# Altium integrated library Linear Technology Power Management Hot Swap Controllers.IntLib: 992 symbols (part 19 of 93)
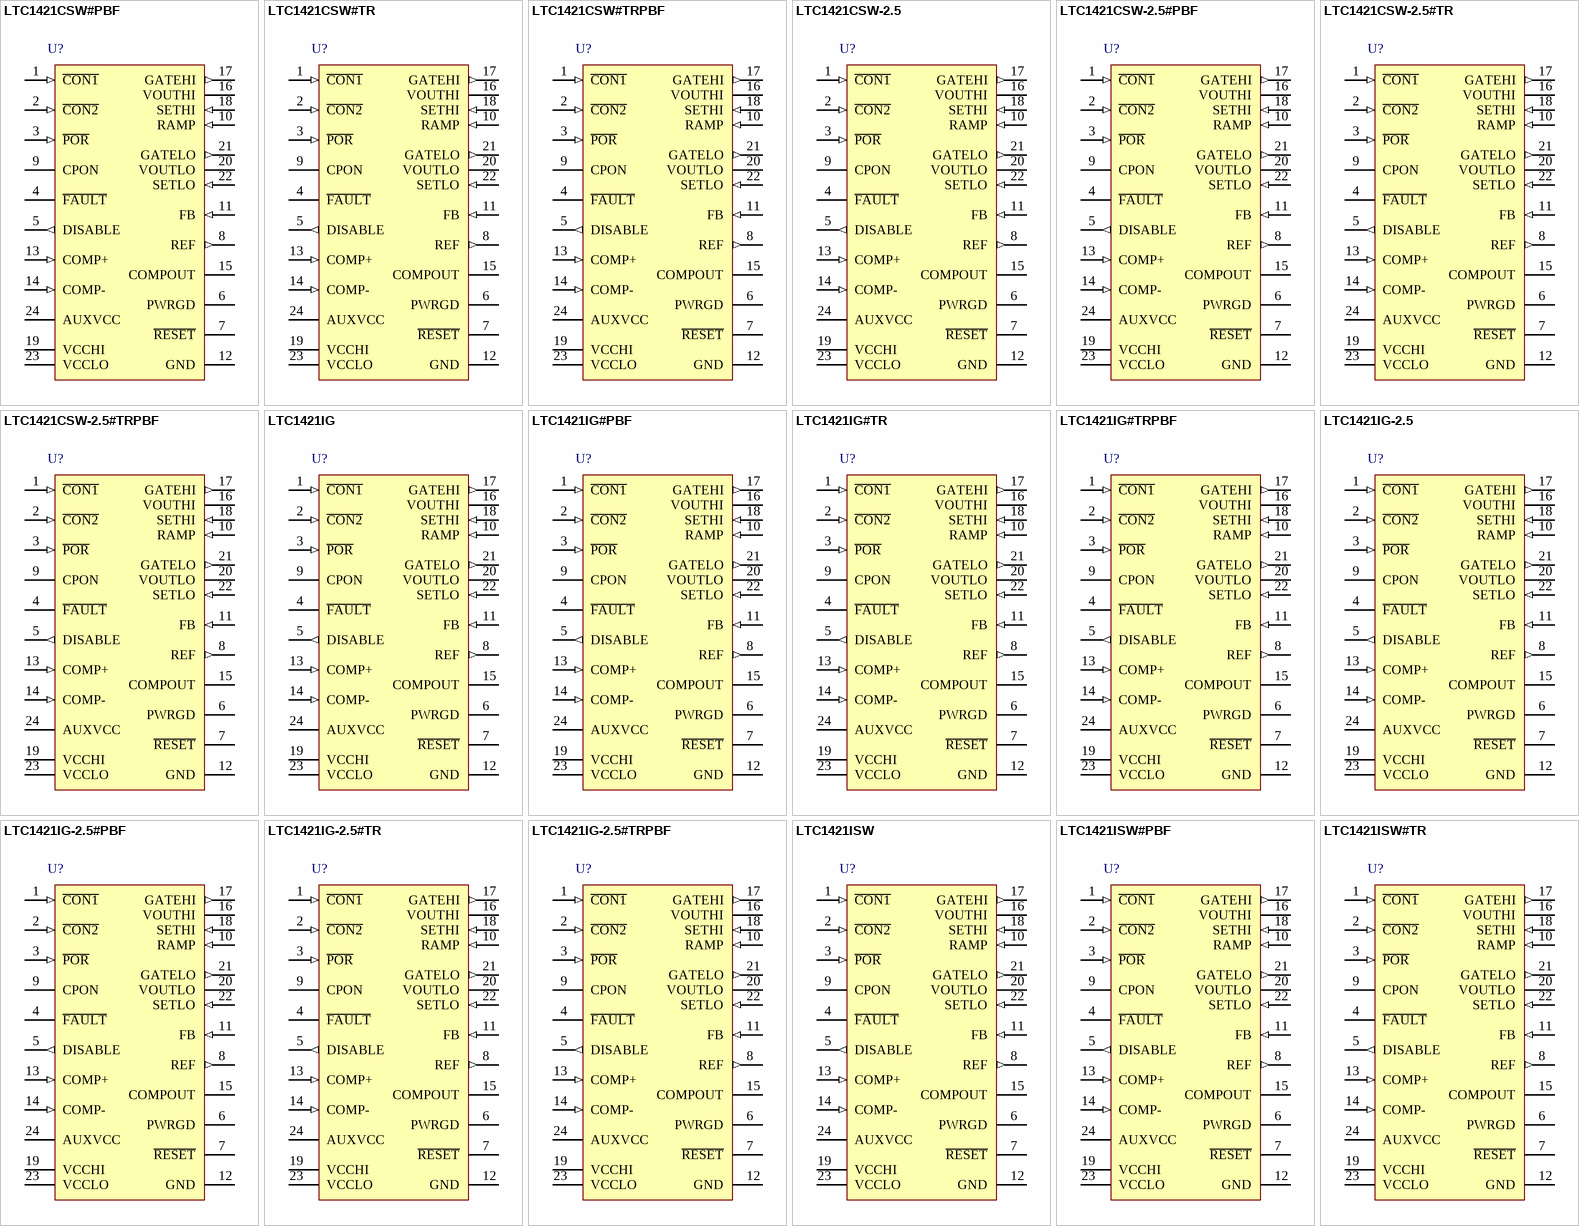
[diagram p55: symbols LTC1421CSW#PBF to LTC1421ISW#TR]

## LTC1421IG-2.5#TR
designator U?
Hot Swap Controller, 2.6 to 13.2 V, -5 to -12 V Vin, 24-pin SOP (G-24), -40 to 85 degC, Tape and Reel; Manufacturer: Linear Technology; PartNumber: LTC1421IG-2.5#TR; Active Limiting: no; Circuit Breaker Accuracy(%): 20; Circuit Breaker Threshold: 50 mV; Circuit Breakers(#): 2; Extended Temp: C, I; Fault: yes; In-Rush Current: Ramp; DatasheetVersion: Rev. C; PackageVersion: Jun-10; PackageReference: G-24; PackageDescription: 24-Pin Plastic SSOP, Body 8.2 x 5.3 mm, Pitch 0.65 mm; Supplier 1: Digi-Key; Supplier Part Number 1: LTC1421IG-2.5#TR-ND; Fast Comparator: no; Foldback: no; Packing: Tape and Reel; Power Good: yes; Reset: yes; RoHS: FALSE; Vin Range: 2.6 to 13.2 V, -5 to -12 V; Mounting Technology: Surface Mount; ComponentLink1Description: Manufacturer URL; ComponentLink1URL: http://www.linear.com/; ComponentLink2Description: Datasheet; ComponentLink2URL: http://cds.linear.com/docs/en/datasheet/1421fc.pdf; ComponentLink3Description: Package Specification; ComponentLink3URL: http://cds.linear.com/docs/en/packaging/SSOP_24_05-08-1640.pdf
footprint LT-G-24_N (SOP, 24-Leads, Body 8.5x5.6mm, Pitch 0.65mm, IPC Medium Density)
footprint LT-G-24_L (SOP, 24-Leads, Body 8.5x5.6mm, Pitch 0.65mm, IPC High Density)
footprint LT-G-24_M (SOP, 24-Leads, Body 8.5x5.6mm, Pitch 0.65mm, IPC Low Density)
pins: 1 ~{CON1} (in) "TTL Level Input with a Pull-Up to VCCLO.Together with C\O\N\2\, it is used to indicate board connection. The pin must be tied to ground on the host side of the connector. When using staggered connector pins, C\O\N\1\ and (See Datasheet)", 2 ~{CON2} (in) "TTL Level Input with a Pull-Up to VCCLO. Together with C\O\N\1\ it is used to indicate board connection.", 3 ~{POR} (in) "TTL Level Input with a Pull-Up to VCCLO. When the pin is pulled low for at least 20ms, a hard reset is generated. Both VOUTLO and VOUTHI will turn off at a controlled rate. A power-up sequence will not start until the P\O\R\ (See Datasheet)", 4 ~{FAULT} (oc) "Open Drain Output to GND with a Weak Pull-Up to VCCLO. The pin is pulled low when an overcurrent fault is detected at VOUTLO or VOUTHI.", 5 DISABLE (out) "CMOS Output. The signal is used to disable the board’s data bus during insertion or removal.", 6 PWRGD (oc) "Open Drain Output to GND with a Weak Pull-Up to VCCLO. The pin is pulled low immediately after VOUTLO falls below its reset threshold voltage. The pin is pulled high immediately after VOUTLO rises above its reset threshold (See Datasheet)", 7 ~{RESET} (oc) "Open Drain Output to GND with a Weak Pull-Up to VCCLO. The pin is pulled low when a reset condition is detected. A reset will be generated when any of the following conditions are met: Either C\O\N\1\ or C\O\N\2\ is high, (See Datasheet)", 8 REF (out) "The Reference Voltage Output. VOUT = 1.232V +/-1%. The reference can source up to 5mA of current. A 1uF bypass capacitor is recommended.", 9 CPON (hiz) "CMOS Output That Can Be Pulled Below Ground. CPON is pulled high when the internal charge pumps for GATELO and GATEHI are turned on. CPON is pulled low when the charge pumps are turned off. The pin can be used to control an (See Datasheet)", 10 RAMP (in) "Analog Power-Up Ramp Control Pin. By connecting an external capacitor between the RAMP and GATEHI, a positive linear voltage ramp on GATEHI and GATELO is generated on power-up with a slope equal to 20uA/CRAMP. A 10k resistor (See Datasheet)", 11 FB (in) "Analog Feedback Input. FB is used to set the reset threshold voltage on VCCLO. For a 5V supply leave FB floating. For a 3.3V supply, short FB to VCCLO.", 12 GND (power) "Ground", 13 COMP+ (in) "Noninverting Comparator Input.", 14 COMP- (in) "Inverting Comparator Input.", 15 COMPOUT (oc) "Open Drain Comparator Output.", 16 VOUTHI (power) "High Supply Voltage Output. This must be the higher of the two supply voltage outputs.", 17 GATEHI (out) "The High Side Gate Drive for the High Supply N-Channel. An internal charge pump guarantees at least 6V of gate drive. The slope of the voltage rise at GATEHI is set by the external capacitor connected between GATEHI and RAMP.(See Datasheet)", 18 SETHI (in) "The Circuit Breaker Set Pin for the High Supply. With a sense resistor placed in the supply path between VCCHI and SETHI, the circuit breaker will trip when the voltage across the resistor exceeds 50mV for more than 20us. To (See Datasheet)", 19 VCCHI (power) "The Positive Supply Input. This must be the higher of the two input supply voltages. An undervoltage lockout circuit disables the chip until the voltage at VCCHI is greater than 2.45V.", 20 VOUTLO (power) "Low Supply Voltage Output. This must be the lower of the two supply voltage outputs.", 21 GATELO (out) "The High Side Gate Drive for the Low Supply N-Channel Pass Transistor. An internal charge pump guarantees at least 10V of gate drive. The slope of the voltage rise at GATELO is set by the external capacitor connected between (See Datasheet)", 22 SETLO (in) "The Circuit Breaker Set Pin for the Low Supply. With a sense resistor placed in the supply path between VCCLO and SETLO, the circuit breaker will trip when the voltage across the resistor exceeds 50mV for more than 20us. To (See Datasheet)", 23 VCCLO (power) "The Positive Supply Input. VCCLO must be equal to or lower voltage than VCCHI. An undervoltage lockout circuit disables the chip until the voltage at VCCLO is greater than 2.45V.", 24 AUXVCC (power) "The supply input for the GATELO and GATEHI discharge circuitry. Connect a 1uF capacitor to ground. AUXVCC is powered from VCCLO via an internal Schottky diode and series resistor."

## LTC1421IG-2.5#TRPBF
designator U?
Hot Swap Controller, 2.6 to 13.2 V, -5 to -12 V Vin, 24-pin SOP (G-24), -40 to 85 degC, Pb-Free, Tape and Reel; Manufacturer: Linear Technology; PartNumber: LTC1421IG-2.5#TRPBF; Active Limiting: no; Circuit Breaker Accuracy(%): 20; Circuit Breaker Threshold: 50 mV; Circuit Breakers(#): 2; Extended Temp: C, I; Fault: yes; In-Rush Current: Ramp; DatasheetVersion: Rev. C; PackageVersion: Jun-10; PackageReference: G-24; PackageDescription: 24-Pin Plastic SSOP, Body 8.2 x 5.3 mm, Pitch 0.65 mm; Supplier 1: Digi-Key; Supplier Part Number 1: LTC1421IG-2.5#TRPBF-ND; Fast Comparator: no; Foldback: no; Packing: Tape and Reel; Power Good: yes; Reset: yes; RoHS: TRUE; Vin Range: 2.6 to 13.2 V, -5 to -12 V; Mounting Technology: Surface Mount; ComponentLink1Description: Manufacturer URL; ComponentLink1URL: http://www.linear.com/; ComponentLink2Description: Datasheet; ComponentLink2URL: http://cds.linear.com/docs/en/datasheet/1421fc.pdf; ComponentLink3Description: Package Specification; ComponentLink3URL: http://cds.linear.com/docs/en/packaging/SSOP_24_05-08-1640.pdf
footprint LT-G-24_N (SOP, 24-Leads, Body 8.5x5.6mm, Pitch 0.65mm, IPC Medium Density)
footprint LT-G-24_L (SOP, 24-Leads, Body 8.5x5.6mm, Pitch 0.65mm, IPC High Density)
footprint LT-G-24_M (SOP, 24-Leads, Body 8.5x5.6mm, Pitch 0.65mm, IPC Low Density)
pins: 1 ~{CON1} (in) "TTL Level Input with a Pull-Up to VCCLO.Together with C\O\N\2\, it is used to indicate board connection. The pin must be tied to ground on the host side of the connector. When using staggered connector pins, C\O\N\1\ and (See Datasheet)", 2 ~{CON2} (in) "TTL Level Input with a Pull-Up to VCCLO. Together with C\O\N\1\ it is used to indicate board connection.", 3 ~{POR} (in) "TTL Level Input with a Pull-Up to VCCLO. When the pin is pulled low for at least 20ms, a hard reset is generated. Both VOUTLO and VOUTHI will turn off at a controlled rate. A power-up sequence will not start until the P\O\R\ (See Datasheet)", 4 ~{FAULT} (oc) "Open Drain Output to GND with a Weak Pull-Up to VCCLO. The pin is pulled low when an overcurrent fault is detected at VOUTLO or VOUTHI.", 5 DISABLE (out) "CMOS Output. The signal is used to disable the board’s data bus during insertion or removal.", 6 PWRGD (oc) "Open Drain Output to GND with a Weak Pull-Up to VCCLO. The pin is pulled low immediately after VOUTLO falls below its reset threshold voltage. The pin is pulled high immediately after VOUTLO rises above its reset threshold (See Datasheet)", 7 ~{RESET} (oc) "Open Drain Output to GND with a Weak Pull-Up to VCCLO. The pin is pulled low when a reset condition is detected. A reset will be generated when any of the following conditions are met: Either C\O\N\1\ or C\O\N\2\ is high, (See Datasheet)", 8 REF (out) "The Reference Voltage Output. VOUT = 1.232V +/-1%. The reference can source up to 5mA of current. A 1uF bypass capacitor is recommended.", 9 CPON (hiz) "CMOS Output That Can Be Pulled Below Ground. CPON is pulled high when the internal charge pumps for GATELO and GATEHI are turned on. CPON is pulled low when the charge pumps are turned off. The pin can be used to control an (See Datasheet)", 10 RAMP (in) "Analog Power-Up Ramp Control Pin. By connecting an external capacitor between the RAMP and GATEHI, a positive linear voltage ramp on GATEHI and GATELO is generated on power-up with a slope equal to 20uA/CRAMP. A 10k resistor (See Datasheet)", 11 FB (in) "Analog Feedback Input. FB is used to set the reset threshold voltage on VCCLO. For a 5V supply leave FB floating. For a 3.3V supply, short FB to VCCLO.", 12 GND (power) "Ground", 13 COMP+ (in) "Noninverting Comparator Input.", 14 COMP- (in) "Inverting Comparator Input.", 15 COMPOUT (oc) "Open Drain Comparator Output.", 16 VOUTHI (power) "High Supply Voltage Output. This must be the higher of the two supply voltage outputs.", 17 GATEHI (out) "The High Side Gate Drive for the High Supply N-Channel. An internal charge pump guarantees at least 6V of gate drive. The slope of the voltage rise at GATEHI is set by the external capacitor connected between GATEHI and RAMP.(See Datasheet)", 18 SETHI (in) "The Circuit Breaker Set Pin for the High Supply. With a sense resistor placed in the supply path between VCCHI and SETHI, the circuit breaker will trip when the voltage across the resistor exceeds 50mV for more than 20us. To (See Datasheet)", 19 VCCHI (power) "The Positive Supply Input. This must be the higher of the two input supply voltages. An undervoltage lockout circuit disables the chip until the voltage at VCCHI is greater than 2.45V.", 20 VOUTLO (power) "Low Supply Voltage Output. This must be the lower of the two supply voltage outputs.", 21 GATELO (out) "The High Side Gate Drive for the Low Supply N-Channel Pass Transistor. An internal charge pump guarantees at least 10V of gate drive. The slope of the voltage rise at GATELO is set by the external capacitor connected between (See Datasheet)", 22 SETLO (in) "The Circuit Breaker Set Pin for the Low Supply. With a sense resistor placed in the supply path between VCCLO and SETLO, the circuit breaker will trip when the voltage across the resistor exceeds 50mV for more than 20us. To (See Datasheet)", 23 VCCLO (power) "The Positive Supply Input. VCCLO must be equal to or lower voltage than VCCHI. An undervoltage lockout circuit disables the chip until the voltage at VCCLO is greater than 2.45V.", 24 AUXVCC (power) "The supply input for the GATELO and GATEHI discharge circuitry. Connect a 1uF capacitor to ground. AUXVCC is powered from VCCLO via an internal Schottky diode and series resistor."

## LTC1421ISW
designator U?
Hot Swap Controller, 2.6 to 13.2 V, -5 to -12 V Vin, 24-pin SOIC (SW-24), -40 to 85 degC; Manufacturer: Linear Technology; PartNumber: LTC1421ISW; Active Limiting: no; Circuit Breaker Accuracy(%): 20; Circuit Breaker Threshold: 50 mV; Circuit Breakers(#): 2; Extended Temp: C, I; Fault: yes; In-Rush Current: Ramp; DatasheetVersion: Rev. C; PackageVersion: Jun-10; PackageReference: SW-24; PackageDescription: 24-Pin Plastic Small Outline, Body 15.395 x 7.493 mm, Pitch 1.27 mm; Supplier 1: Digi-Key; Supplier Part Number 1: LTC1421ISW-ND; Fast Comparator: no; Foldback: no; Power Good: yes; Reset: yes; RoHS: FALSE; Vin Range: 2.6 to 13.2 V, -5 to -12 V; Mounting Technology: Surface Mount; ComponentLink1Description: Manufacturer URL; ComponentLink1URL: http://www.linear.com/; ComponentLink2Description: Datasheet; ComponentLink2URL: http://cds.linear.com/docs/en/datasheet/1421fc.pdf; ComponentLink3Description: Package Specification; ComponentLink3URL: http://cds.linear.com/docs/Packaging/SO_24_05-08-1620.pdf
footprint LT-SW-24_N (SOIC, 24-Leads, Body 15.6x7.6mm, Pitch 1.27mm, IPC Medium Density)
footprint LT-SW-24_L (SOIC, 24-Leads, Body 15.6x7.6mm, Pitch 1.27mm, IPC High Density)
footprint LT-SW-24_M (SOIC, 24-Leads, Body 15.6x7.6mm, Pitch 1.27mm, IPC Low Density)
pins: 1 ~{CON1} (in) "TTL Level Input with a Pull-Up to VCCLO.Together with C\O\N\2\, it is used to indicate board connection. The pin must be tied to ground on the host side of the connector. When using staggered connector pins, C\O\N\1\ and (See Datasheet)", 2 ~{CON2} (in) "TTL Level Input with a Pull-Up to VCCLO. Together with C\O\N\1\ it is used to indicate board connection.", 3 ~{POR} (in) "TTL Level Input with a Pull-Up to VCCLO. When the pin is pulled low for at least 20ms, a hard reset is generated. Both VOUTLO and VOUTHI will turn off at a controlled rate. A power-up sequence will not start until the P\O\R\ (See Datasheet)", 4 ~{FAULT} (oc) "Open Drain Output to GND with a Weak Pull-Up to VCCLO. The pin is pulled low when an overcurrent fault is detected at VOUTLO or VOUTHI.", 5 DISABLE (out) "CMOS Output. The signal is used to disable the board’s data bus during insertion or removal.", 6 PWRGD (oc) "Open Drain Output to GND with a Weak Pull-Up to VCCLO. The pin is pulled low immediately after VOUTLO falls below its reset threshold voltage. The pin is pulled high immediately after VOUTLO rises above its reset threshold (See Datasheet)", 7 ~{RESET} (oc) "Open Drain Output to GND with a Weak Pull-Up to VCCLO. The pin is pulled low when a reset condition is detected. A reset will be generated when any of the following conditions are met: Either C\O\N\1\ or C\O\N\2\ is high, (See Datasheet)", 8 REF (out) "The Reference Voltage Output. VOUT = 1.232V +/-1%. The reference can source up to 5mA of current. A 1uF bypass capacitor is recommended.", 9 CPON (hiz) "CMOS Output That Can Be Pulled Below Ground. CPON is pulled high when the internal charge pumps for GATELO and GATEHI are turned on. CPON is pulled low when the charge pumps are turned off. The pin can be used to control an (See Datasheet)", 10 RAMP (in) "Analog Power-Up Ramp Control Pin. By connecting an external capacitor between the RAMP and GATEHI, a positive linear voltage ramp on GATEHI and GATELO is generated on power-up with a slope equal to 20uA/CRAMP. A 10k resistor (See Datasheet)", 11 FB (in) "Analog Feedback Input. FB is used to set the reset threshold voltage on VCCLO. For a 5V supply leave FB floating. For a 3.3V supply, short FB to VCCLO.", 12 GND (power) "Ground", 13 COMP+ (in) "Noninverting Comparator Input.", 14 COMP- (in) "Inverting Comparator Input.", 15 COMPOUT (oc) "Open Drain Comparator Output.", 16 VOUTHI (power) "High Supply Voltage Output. This must be the higher of the two supply voltage outputs.", 17 GATEHI (out) "The High Side Gate Drive for the High Supply N-Channel. An internal charge pump guarantees at least 6V of gate drive. The slope of the voltage rise at GATEHI is set by the external capacitor connected between GATEHI and RAMP.(See Datasheet)", 18 SETHI (in) "The Circuit Breaker Set Pin for the High Supply. With a sense resistor placed in the supply path between VCCHI and SETHI, the circuit breaker will trip when the voltage across the resistor exceeds 50mV for more than 20us. To (See Datasheet)", 19 VCCHI (power) "The Positive Supply Input. This must be the higher of the two input supply voltages. An undervoltage lockout circuit disables the chip until the voltage at VCCHI is greater than 2.45V.", 20 VOUTLO (power) "Low Supply Voltage Output. This must be the lower of the two supply voltage outputs.", 21 GATELO (out) "The High Side Gate Drive for the Low Supply N-Channel Pass Transistor. An internal charge pump guarantees at least 10V of gate drive. The slope of the voltage rise at GATELO is set by the external capacitor connected between (See Datasheet)", 22 SETLO (in) "The Circuit Breaker Set Pin for the Low Supply. With a sense resistor placed in the supply path between VCCLO and SETLO, the circuit breaker will trip when the voltage across the resistor exceeds 50mV for more than 20us. To (See Datasheet)", 23 VCCLO (power) "The Positive Supply Input. VCCLO must be equal to or lower voltage than VCCHI. An undervoltage lockout circuit disables the chip until the voltage at VCCLO is greater than 2.45V.", 24 AUXVCC (power) "The supply input for the GATELO and GATEHI discharge circuitry. Connect a 1uF capacitor to ground. AUXVCC is powered from VCCLO via an internal Schottky diode and series resistor."

## LTC1421ISW#PBF
designator U?
Hot Swap Controller, 2.6 to 13.2 V, -5 to -12 V Vin, 24-pin SOIC (SW-24), -40 to 85 degC, Pb-Free; Manufacturer: Linear Technology; PartNumber: LTC1421ISW#PBF; Active Limiting: no; Circuit Breaker Accuracy(%): 20; Circuit Breaker Threshold: 50 mV; Circuit Breakers(#): 2; Extended Temp: C, I; Fault: yes; In-Rush Current: Ramp; DatasheetVersion: Rev. C; PackageVersion: Jun-10; PackageReference: SW-24; PackageDescription: 24-Pin Plastic Small Outline, Body 15.395 x 7.493 mm, Pitch 1.27 mm; Supplier 1: Digi-Key; Supplier Part Number 1: LTC1421ISW#PBF-ND; Supplier 2: Newark; Supplier Part Number 2: 56M0993; Fast Comparator: no; Foldback: no; Power Good: yes; Reset: yes; RoHS: TRUE; Vin Range: 2.6 to 13.2 V, -5 to -12 V; Mounting Technology: Surface Mount; ComponentLink1Description: Manufacturer URL; ComponentLink1URL: http://www.linear.com/; ComponentLink2Description: Datasheet; ComponentLink2URL: http://cds.linear.com/docs/en/datasheet/1421fc.pdf; ComponentLink3Description: Package Specification; ComponentLink3URL: http://cds.linear.com/docs/Packaging/SO_24_05-08-1620.pdf
footprint LT-SW-24_N (SOIC, 24-Leads, Body 15.6x7.6mm, Pitch 1.27mm, IPC Medium Density)
footprint LT-SW-24_L (SOIC, 24-Leads, Body 15.6x7.6mm, Pitch 1.27mm, IPC High Density)
footprint LT-SW-24_M (SOIC, 24-Leads, Body 15.6x7.6mm, Pitch 1.27mm, IPC Low Density)
pins: 1 ~{CON1} (in) "TTL Level Input with a Pull-Up to VCCLO.Together with C\O\N\2\, it is used to indicate board connection. The pin must be tied to ground on the host side of the connector. When using staggered connector pins, C\O\N\1\ and (See Datasheet)", 2 ~{CON2} (in) "TTL Level Input with a Pull-Up to VCCLO. Together with C\O\N\1\ it is used to indicate board connection.", 3 ~{POR} (in) "TTL Level Input with a Pull-Up to VCCLO. When the pin is pulled low for at least 20ms, a hard reset is generated. Both VOUTLO and VOUTHI will turn off at a controlled rate. A power-up sequence will not start until the P\O\R\ (See Datasheet)", 4 ~{FAULT} (oc) "Open Drain Output to GND with a Weak Pull-Up to VCCLO. The pin is pulled low when an overcurrent fault is detected at VOUTLO or VOUTHI.", 5 DISABLE (out) "CMOS Output. The signal is used to disable the board’s data bus during insertion or removal.", 6 PWRGD (oc) "Open Drain Output to GND with a Weak Pull-Up to VCCLO. The pin is pulled low immediately after VOUTLO falls below its reset threshold voltage. The pin is pulled high immediately after VOUTLO rises above its reset threshold (See Datasheet)", 7 ~{RESET} (oc) "Open Drain Output to GND with a Weak Pull-Up to VCCLO. The pin is pulled low when a reset condition is detected. A reset will be generated when any of the following conditions are met: Either C\O\N\1\ or C\O\N\2\ is high, (See Datasheet)", 8 REF (out) "The Reference Voltage Output. VOUT = 1.232V +/-1%. The reference can source up to 5mA of current. A 1uF bypass capacitor is recommended.", 9 CPON (hiz) "CMOS Output That Can Be Pulled Below Ground. CPON is pulled high when the internal charge pumps for GATELO and GATEHI are turned on. CPON is pulled low when the charge pumps are turned off. The pin can be used to control an (See Datasheet)", 10 RAMP (in) "Analog Power-Up Ramp Control Pin. By connecting an external capacitor between the RAMP and GATEHI, a positive linear voltage ramp on GATEHI and GATELO is generated on power-up with a slope equal to 20uA/CRAMP. A 10k resistor (See Datasheet)", 11 FB (in) "Analog Feedback Input. FB is used to set the reset threshold voltage on VCCLO. For a 5V supply leave FB floating. For a 3.3V supply, short FB to VCCLO.", 12 GND (power) "Ground", 13 COMP+ (in) "Noninverting Comparator Input.", 14 COMP- (in) "Inverting Comparator Input.", 15 COMPOUT (oc) "Open Drain Comparator Output.", 16 VOUTHI (power) "High Supply Voltage Output. This must be the higher of the two supply voltage outputs.", 17 GATEHI (out) "The High Side Gate Drive for the High Supply N-Channel. An internal charge pump guarantees at least 6V of gate drive. The slope of the voltage rise at GATEHI is set by the external capacitor connected between GATEHI and RAMP.(See Datasheet)", 18 SETHI (in) "The Circuit Breaker Set Pin for the High Supply. With a sense resistor placed in the supply path between VCCHI and SETHI, the circuit breaker will trip when the voltage across the resistor exceeds 50mV for more than 20us. To (See Datasheet)", 19 VCCHI (power) "The Positive Supply Input. This must be the higher of the two input supply voltages. An undervoltage lockout circuit disables the chip until the voltage at VCCHI is greater than 2.45V.", 20 VOUTLO (power) "Low Supply Voltage Output. This must be the lower of the two supply voltage outputs.", 21 GATELO (out) "The High Side Gate Drive for the Low Supply N-Channel Pass Transistor. An internal charge pump guarantees at least 10V of gate drive. The slope of the voltage rise at GATELO is set by the external capacitor connected between (See Datasheet)", 22 SETLO (in) "The Circuit Breaker Set Pin for the Low Supply. With a sense resistor placed in the supply path between VCCLO and SETLO, the circuit breaker will trip when the voltage across the resistor exceeds 50mV for more than 20us. To (See Datasheet)", 23 VCCLO (power) "The Positive Supply Input. VCCLO must be equal to or lower voltage than VCCHI. An undervoltage lockout circuit disables the chip until the voltage at VCCLO is greater than 2.45V.", 24 AUXVCC (power) "The supply input for the GATELO and GATEHI discharge circuitry. Connect a 1uF capacitor to ground. AUXVCC is powered from VCCLO via an internal Schottky diode and series resistor."

## LTC1421ISW#TR
designator U?
Hot Swap Controller, 2.6 to 13.2 V, -5 to -12 V Vin, 24-pin SOIC (SW-24), -40 to 85 degC, Tape and Reel; Manufacturer: Linear Technology; PartNumber: LTC1421ISW#TR; Active Limiting: no; Circuit Breaker Accuracy(%): 20; Circuit Breaker Threshold: 50 mV; Circuit Breakers(#): 2; Extended Temp: C, I; Fault: yes; In-Rush Current: Ramp; DatasheetVersion: Rev. C; PackageVersion: Jun-10; PackageReference: SW-24; PackageDescription: 24-Pin Plastic Small Outline, Body 15.395 x 7.493 mm, Pitch 1.27 mm; Supplier 1: Digi-Key; Supplier Part Number 1: LTC1421ISW#TR-ND; Fast Comparator: no; Foldback: no; Packing: Tape and Reel; Power Good: yes; Reset: yes; RoHS: FALSE; Vin Range: 2.6 to 13.2 V, -5 to -12 V; Mounting Technology: Surface Mount; ComponentLink1Description: Manufacturer URL; ComponentLink1URL: http://www.linear.com/; ComponentLink2Description: Datasheet; ComponentLink2URL: http://cds.linear.com/docs/en/datasheet/1421fc.pdf; ComponentLink3Description: Package Specification; ComponentLink3URL: http://cds.linear.com/docs/Packaging/SO_24_05-08-1620.pdf
footprint LT-SW-24_N (SOIC, 24-Leads, Body 15.6x7.6mm, Pitch 1.27mm, IPC Medium Density)
footprint LT-SW-24_L (SOIC, 24-Leads, Body 15.6x7.6mm, Pitch 1.27mm, IPC High Density)
footprint LT-SW-24_M (SOIC, 24-Leads, Body 15.6x7.6mm, Pitch 1.27mm, IPC Low Density)
pins: 1 ~{CON1} (in) "TTL Level Input with a Pull-Up to VCCLO.Together with C\O\N\2\, it is used to indicate board connection. The pin must be tied to ground on the host side of the connector. When using staggered connector pins, C\O\N\1\ and (See Datasheet)", 2 ~{CON2} (in) "TTL Level Input with a Pull-Up to VCCLO. Together with C\O\N\1\ it is used to indicate board connection.", 3 ~{POR} (in) "TTL Level Input with a Pull-Up to VCCLO. When the pin is pulled low for at least 20ms, a hard reset is generated. Both VOUTLO and VOUTHI will turn off at a controlled rate. A power-up sequence will not start until the P\O\R\ (See Datasheet)", 4 ~{FAULT} (oc) "Open Drain Output to GND with a Weak Pull-Up to VCCLO. The pin is pulled low when an overcurrent fault is detected at VOUTLO or VOUTHI.", 5 DISABLE (out) "CMOS Output. The signal is used to disable the board’s data bus during insertion or removal.", 6 PWRGD (oc) "Open Drain Output to GND with a Weak Pull-Up to VCCLO. The pin is pulled low immediately after VOUTLO falls below its reset threshold voltage. The pin is pulled high immediately after VOUTLO rises above its reset threshold (See Datasheet)", 7 ~{RESET} (oc) "Open Drain Output to GND with a Weak Pull-Up to VCCLO. The pin is pulled low when a reset condition is detected. A reset will be generated when any of the following conditions are met: Either C\O\N\1\ or C\O\N\2\ is high, (See Datasheet)", 8 REF (out) "The Reference Voltage Output. VOUT = 1.232V +/-1%. The reference can source up to 5mA of current. A 1uF bypass capacitor is recommended.", 9 CPON (hiz) "CMOS Output That Can Be Pulled Below Ground. CPON is pulled high when the internal charge pumps for GATELO and GATEHI are turned on. CPON is pulled low when the charge pumps are turned off. The pin can be used to control an (See Datasheet)", 10 RAMP (in) "Analog Power-Up Ramp Control Pin. By connecting an external capacitor between the RAMP and GATEHI, a positive linear voltage ramp on GATEHI and GATELO is generated on power-up with a slope equal to 20uA/CRAMP. A 10k resistor (See Datasheet)", 11 FB (in) "Analog Feedback Input. FB is used to set the reset threshold voltage on VCCLO. For a 5V supply leave FB floating. For a 3.3V supply, short FB to VCCLO.", 12 GND (power) "Ground", 13 COMP+ (in) "Noninverting Comparator Input.", 14 COMP- (in) "Inverting Comparator Input.", 15 COMPOUT (oc) "Open Drain Comparator Output.", 16 VOUTHI (power) "High Supply Voltage Output. This must be the higher of the two supply voltage outputs.", 17 GATEHI (out) "The High Side Gate Drive for the High Supply N-Channel. An internal charge pump guarantees at least 6V of gate drive. The slope of the voltage rise at GATEHI is set by the external capacitor connected between GATEHI and RAMP.(See Datasheet)", 18 SETHI (in) "The Circuit Breaker Set Pin for the High Supply. With a sense resistor placed in the supply path between VCCHI and SETHI, the circuit breaker will trip when the voltage across the resistor exceeds 50mV for more than 20us. To (See Datasheet)", 19 VCCHI (power) "The Positive Supply Input. This must be the higher of the two input supply voltages. An undervoltage lockout circuit disables the chip until the voltage at VCCHI is greater than 2.45V.", 20 VOUTLO (power) "Low Supply Voltage Output. This must be the lower of the two supply voltage outputs.", 21 GATELO (out) "The High Side Gate Drive for the Low Supply N-Channel Pass Transistor. An internal charge pump guarantees at least 10V of gate drive. The slope of the voltage rise at GATELO is set by the external capacitor connected between (See Datasheet)", 22 SETLO (in) "The Circuit Breaker Set Pin for the Low Supply. With a sense resistor placed in the supply path between VCCLO and SETLO, the circuit breaker will trip when the voltage across the resistor exceeds 50mV for more than 20us. To (See Datasheet)", 23 VCCLO (power) "The Positive Supply Input. VCCLO must be equal to or lower voltage than VCCHI. An undervoltage lockout circuit disables the chip until the voltage at VCCLO is greater than 2.45V.", 24 AUXVCC (power) "The supply input for the GATELO and GATEHI discharge circuitry. Connect a 1uF capacitor to ground. AUXVCC is powered from VCCLO via an internal Schottky diode and series resistor."

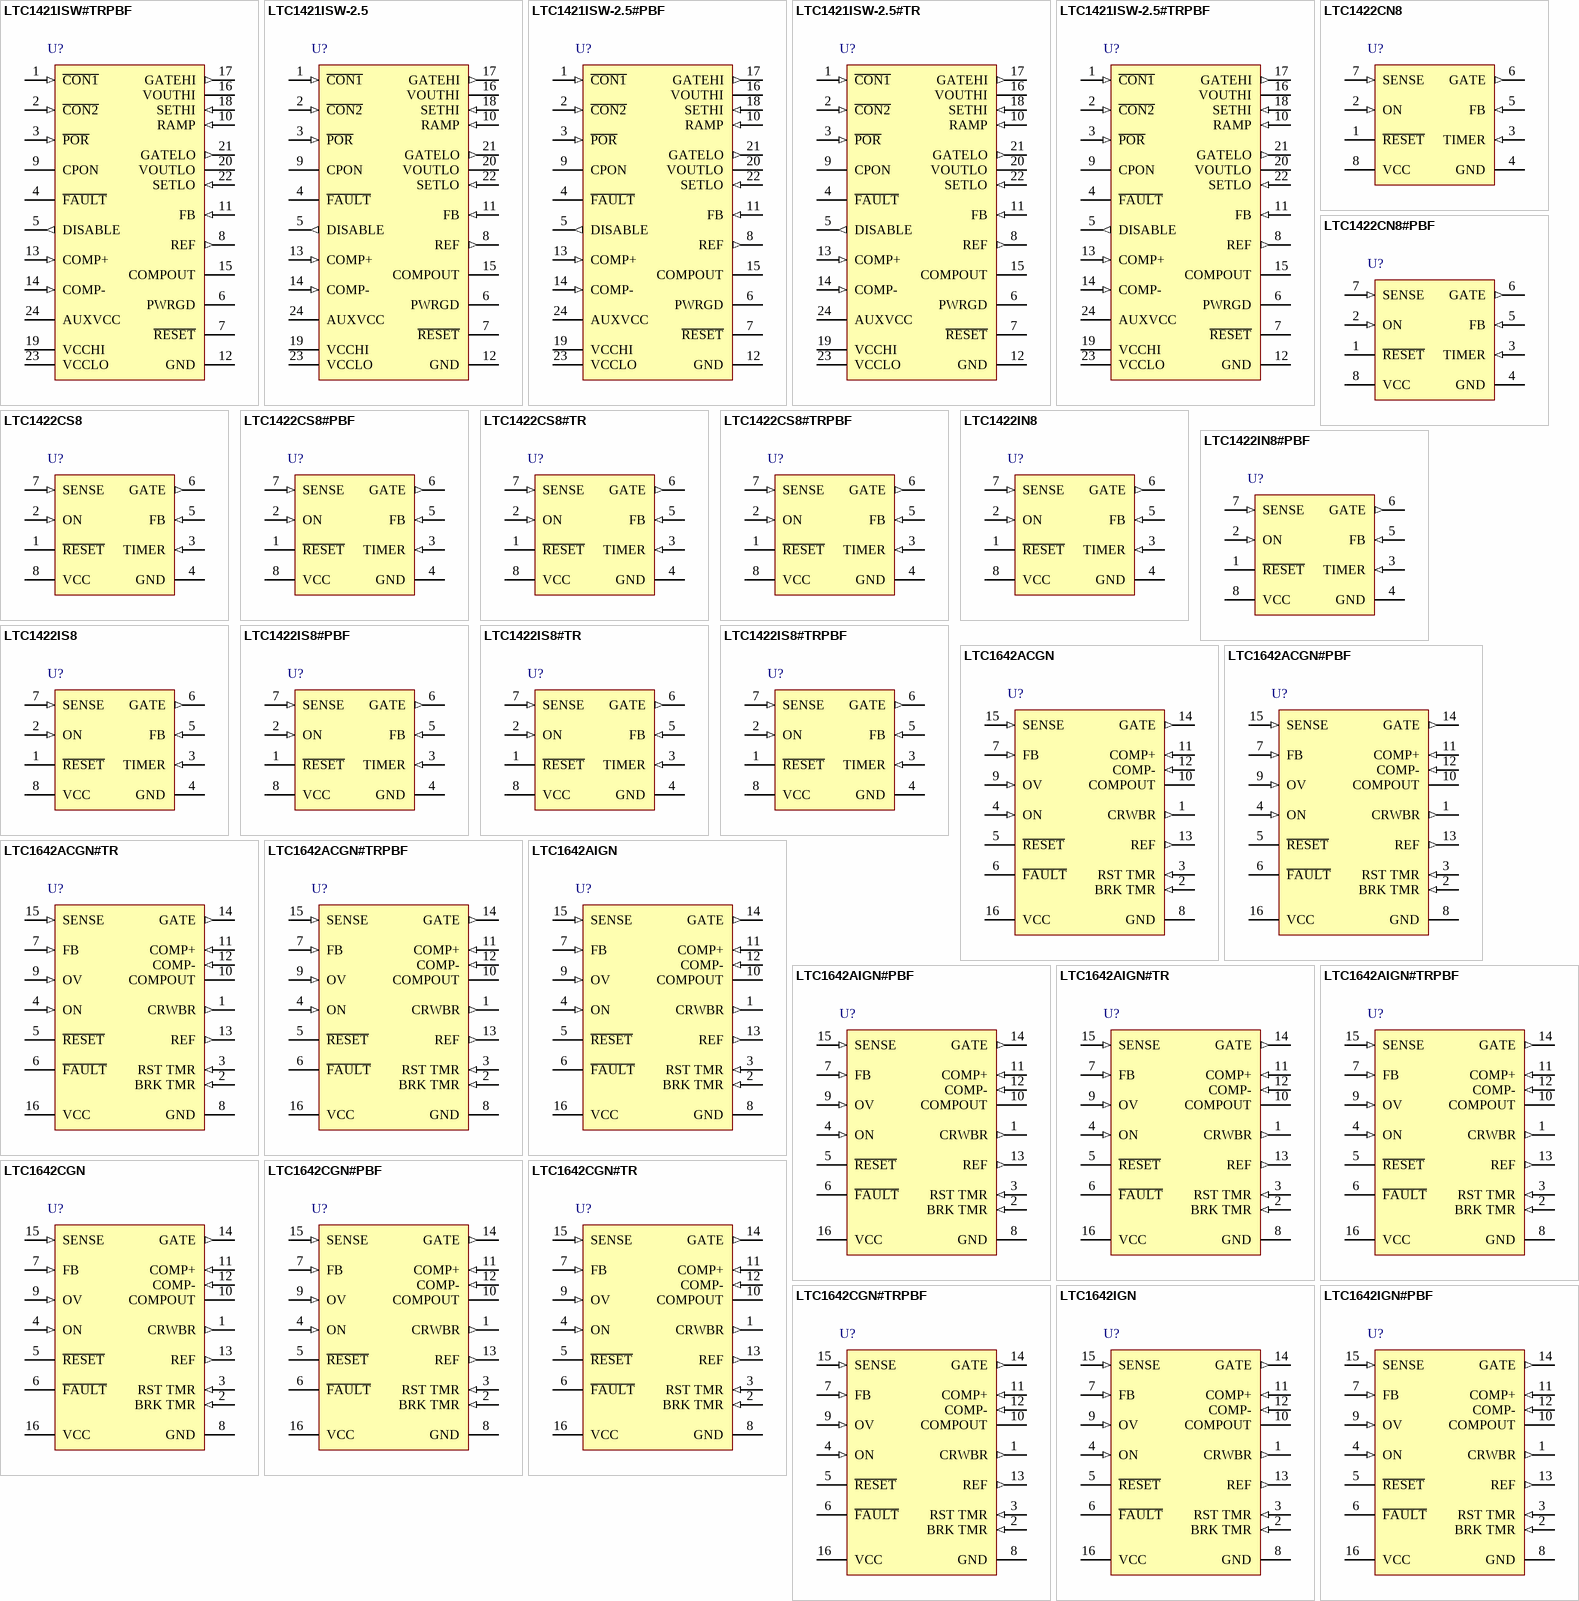
[diagram p8: symbols LTC1421ISW#TRPBF to LTC1642IGN#PBF]

## LTC1421ISW#TRPBF
designator U?
Hot Swap Controller, 2.6 to 13.2 V, -5 to -12 V Vin, 24-pin SOIC (SW-24), -40 to 85 degC, Pb-Free, Tape and Reel; Manufacturer: Linear Technology; PartNumber: LTC1421ISW#TRPBF; Active Limiting: no; Circuit Breaker Accuracy(%): 20; Circuit Breaker Threshold: 50 mV; Circuit Breakers(#): 2; Extended Temp: C, I; Fault: yes; In-Rush Current: Ramp; DatasheetVersion: Rev. C; PackageVersion: Jun-10; PackageReference: SW-24; PackageDescription: 24-Pin Plastic Small Outline, Body 15.395 x 7.493 mm, Pitch 1.27 mm; Supplier 1: Digi-Key; Supplier Part Number 1: LTC1421ISW#TRPBF-ND; Fast Comparator: no; Foldback: no; Packing: Tape and Reel; Power Good: yes; Reset: yes; RoHS: TRUE; Vin Range: 2.6 to 13.2 V, -5 to -12 V; Mounting Technology: Surface Mount; ComponentLink1Description: Manufacturer URL; ComponentLink1URL: http://www.linear.com/; ComponentLink2Description: Datasheet; ComponentLink2URL: http://cds.linear.com/docs/en/datasheet/1421fc.pdf; ComponentLink3Description: Package Specification; ComponentLink3URL: http://cds.linear.com/docs/Packaging/SO_24_05-08-1620.pdf
footprint LT-SW-24_N (SOIC, 24-Leads, Body 15.6x7.6mm, Pitch 1.27mm, IPC Medium Density)
footprint LT-SW-24_L (SOIC, 24-Leads, Body 15.6x7.6mm, Pitch 1.27mm, IPC High Density)
footprint LT-SW-24_M (SOIC, 24-Leads, Body 15.6x7.6mm, Pitch 1.27mm, IPC Low Density)
pins: 1 ~{CON1} (in) "TTL Level Input with a Pull-Up to VCCLO.Together with C\O\N\2\, it is used to indicate board connection. The pin must be tied to ground on the host side of the connector. When using staggered connector pins, C\O\N\1\ and (See Datasheet)", 2 ~{CON2} (in) "TTL Level Input with a Pull-Up to VCCLO. Together with C\O\N\1\ it is used to indicate board connection.", 3 ~{POR} (in) "TTL Level Input with a Pull-Up to VCCLO. When the pin is pulled low for at least 20ms, a hard reset is generated. Both VOUTLO and VOUTHI will turn off at a controlled rate. A power-up sequence will not start until the P\O\R\ (See Datasheet)", 4 ~{FAULT} (oc) "Open Drain Output to GND with a Weak Pull-Up to VCCLO. The pin is pulled low when an overcurrent fault is detected at VOUTLO or VOUTHI.", 5 DISABLE (out) "CMOS Output. The signal is used to disable the board’s data bus during insertion or removal.", 6 PWRGD (oc) "Open Drain Output to GND with a Weak Pull-Up to VCCLO. The pin is pulled low immediately after VOUTLO falls below its reset threshold voltage. The pin is pulled high immediately after VOUTLO rises above its reset threshold (See Datasheet)", 7 ~{RESET} (oc) "Open Drain Output to GND with a Weak Pull-Up to VCCLO. The pin is pulled low when a reset condition is detected. A reset will be generated when any of the following conditions are met: Either C\O\N\1\ or C\O\N\2\ is high, (See Datasheet)", 8 REF (out) "The Reference Voltage Output. VOUT = 1.232V +/-1%. The reference can source up to 5mA of current. A 1uF bypass capacitor is recommended.", 9 CPON (hiz) "CMOS Output That Can Be Pulled Below Ground. CPON is pulled high when the internal charge pumps for GATELO and GATEHI are turned on. CPON is pulled low when the charge pumps are turned off. The pin can be used to control an (See Datasheet)", 10 RAMP (in) "Analog Power-Up Ramp Control Pin. By connecting an external capacitor between the RAMP and GATEHI, a positive linear voltage ramp on GATEHI and GATELO is generated on power-up with a slope equal to 20uA/CRAMP. A 10k resistor (See Datasheet)", 11 FB (in) "Analog Feedback Input. FB is used to set the reset threshold voltage on VCCLO. For a 5V supply leave FB floating. For a 3.3V supply, short FB to VCCLO.", 12 GND (power) "Ground", 13 COMP+ (in) "Noninverting Comparator Input.", 14 COMP- (in) "Inverting Comparator Input.", 15 COMPOUT (oc) "Open Drain Comparator Output.", 16 VOUTHI (power) "High Supply Voltage Output. This must be the higher of the two supply voltage outputs.", 17 GATEHI (out) "The High Side Gate Drive for the High Supply N-Channel. An internal charge pump guarantees at least 6V of gate drive. The slope of the voltage rise at GATEHI is set by the external capacitor connected between GATEHI and RAMP.(See Datasheet)", 18 SETHI (in) "The Circuit Breaker Set Pin for the High Supply. With a sense resistor placed in the supply path between VCCHI and SETHI, the circuit breaker will trip when the voltage across the resistor exceeds 50mV for more than 20us. To (See Datasheet)", 19 VCCHI (power) "The Positive Supply Input. This must be the higher of the two input supply voltages. An undervoltage lockout circuit disables the chip until the voltage at VCCHI is greater than 2.45V.", 20 VOUTLO (power) "Low Supply Voltage Output. This must be the lower of the two supply voltage outputs.", 21 GATELO (out) "The High Side Gate Drive for the Low Supply N-Channel Pass Transistor. An internal charge pump guarantees at least 10V of gate drive. The slope of the voltage rise at GATELO is set by the external capacitor connected between (See Datasheet)", 22 SETLO (in) "The Circuit Breaker Set Pin for the Low Supply. With a sense resistor placed in the supply path between VCCLO and SETLO, the circuit breaker will trip when the voltage across the resistor exceeds 50mV for more than 20us. To (See Datasheet)", 23 VCCLO (power) "The Positive Supply Input. VCCLO must be equal to or lower voltage than VCCHI. An undervoltage lockout circuit disables the chip until the voltage at VCCLO is greater than 2.45V.", 24 AUXVCC (power) "The supply input for the GATELO and GATEHI discharge circuitry. Connect a 1uF capacitor to ground. AUXVCC is powered from VCCLO via an internal Schottky diode and series resistor."

## LTC1421ISW-2.5
designator U?
Hot Swap Controller, 2.6 to 13.2 V, -5 to -12 V Vin, 24-pin SOIC (SW-24), -40 to 85 degC; Manufacturer: Linear Technology; PartNumber: LTC1421ISW-2.5; Active Limiting: no; Circuit Breaker Accuracy(%): 20; Circuit Breaker Threshold: 50 mV; Circuit Breakers(#): 2; Extended Temp: C, I; Fault: yes; In-Rush Current: Ramp; DatasheetVersion: Rev. C; PackageVersion: Jun-10; PackageReference: SW-24; PackageDescription: 24-Pin Plastic Small Outline, Body 15.395 x 7.493 mm, Pitch 1.27 mm; Supplier 1: Digi-Key; Supplier Part Number 1: LTC1421ISW-2.5-ND; Fast Comparator: no; Foldback: no; Power Good: yes; Reset: yes; RoHS: FALSE; Vin Range: 2.6 to 13.2 V, -5 to -12 V; Mounting Technology: Surface Mount; ComponentLink1Description: Manufacturer URL; ComponentLink1URL: http://www.linear.com/; ComponentLink2Description: Datasheet; ComponentLink2URL: http://cds.linear.com/docs/en/datasheet/1421fc.pdf; ComponentLink3Description: Package Specification; ComponentLink3URL: http://cds.linear.com/docs/Packaging/SO_24_05-08-1620.pdf
footprint LT-SW-24_N (SOIC, 24-Leads, Body 15.6x7.6mm, Pitch 1.27mm, IPC Medium Density)
footprint LT-SW-24_L (SOIC, 24-Leads, Body 15.6x7.6mm, Pitch 1.27mm, IPC High Density)
footprint LT-SW-24_M (SOIC, 24-Leads, Body 15.6x7.6mm, Pitch 1.27mm, IPC Low Density)
pins: 1 ~{CON1} (in) "TTL Level Input with a Pull-Up to VCCLO.Together with C\O\N\2\, it is used to indicate board connection. The pin must be tied to ground on the host side of the connector. When using staggered connector pins, C\O\N\1\ and (See Datasheet)", 2 ~{CON2} (in) "TTL Level Input with a Pull-Up to VCCLO. Together with C\O\N\1\ it is used to indicate board connection.", 3 ~{POR} (in) "TTL Level Input with a Pull-Up to VCCLO. When the pin is pulled low for at least 20ms, a hard reset is generated. Both VOUTLO and VOUTHI will turn off at a controlled rate. A power-up sequence will not start until the P\O\R\ (See Datasheet)", 4 ~{FAULT} (oc) "Open Drain Output to GND with a Weak Pull-Up to VCCLO. The pin is pulled low when an overcurrent fault is detected at VOUTLO or VOUTHI.", 5 DISABLE (out) "CMOS Output. The signal is used to disable the board’s data bus during insertion or removal.", 6 PWRGD (oc) "Open Drain Output to GND with a Weak Pull-Up to VCCLO. The pin is pulled low immediately after VOUTLO falls below its reset threshold voltage. The pin is pulled high immediately after VOUTLO rises above its reset threshold (See Datasheet)", 7 ~{RESET} (oc) "Open Drain Output to GND with a Weak Pull-Up to VCCLO. The pin is pulled low when a reset condition is detected. A reset will be generated when any of the following conditions are met: Either C\O\N\1\ or C\O\N\2\ is high, (See Datasheet)", 8 REF (out) "The Reference Voltage Output. VOUT = 1.232V +/-1%. The reference can source up to 5mA of current. A 1uF bypass capacitor is recommended.", 9 CPON (hiz) "CMOS Output That Can Be Pulled Below Ground. CPON is pulled high when the internal charge pumps for GATELO and GATEHI are turned on. CPON is pulled low when the charge pumps are turned off. The pin can be used to control an (See Datasheet)", 10 RAMP (in) "Analog Power-Up Ramp Control Pin. By connecting an external capacitor between the RAMP and GATEHI, a positive linear voltage ramp on GATEHI and GATELO is generated on power-up with a slope equal to 20uA/CRAMP. A 10k resistor (See Datasheet)", 11 FB (in) "Analog Feedback Input. FB is used to set the reset threshold voltage on VCCLO. For a 5V supply leave FB floating. For a 3.3V supply, short FB to VCCLO.", 12 GND (power) "Ground", 13 COMP+ (in) "Noninverting Comparator Input.", 14 COMP- (in) "Inverting Comparator Input.", 15 COMPOUT (oc) "Open Drain Comparator Output.", 16 VOUTHI (power) "High Supply Voltage Output. This must be the higher of the two supply voltage outputs.", 17 GATEHI (out) "The High Side Gate Drive for the High Supply N-Channel. An internal charge pump guarantees at least 6V of gate drive. The slope of the voltage rise at GATEHI is set by the external capacitor connected between GATEHI and RAMP.(See Datasheet)", 18 SETHI (in) "The Circuit Breaker Set Pin for the High Supply. With a sense resistor placed in the supply path between VCCHI and SETHI, the circuit breaker will trip when the voltage across the resistor exceeds 50mV for more than 20us. To (See Datasheet)", 19 VCCHI (power) "The Positive Supply Input. This must be the higher of the two input supply voltages. An undervoltage lockout circuit disables the chip until the voltage at VCCHI is greater than 2.45V.", 20 VOUTLO (power) "Low Supply Voltage Output. This must be the lower of the two supply voltage outputs.", 21 GATELO (out) "The High Side Gate Drive for the Low Supply N-Channel Pass Transistor. An internal charge pump guarantees at least 10V of gate drive. The slope of the voltage rise at GATELO is set by the external capacitor connected between (See Datasheet)", 22 SETLO (in) "The Circuit Breaker Set Pin for the Low Supply. With a sense resistor placed in the supply path between VCCLO and SETLO, the circuit breaker will trip when the voltage across the resistor exceeds 50mV for more than 20us. To (See Datasheet)", 23 VCCLO (power) "The Positive Supply Input. VCCLO must be equal to or lower voltage than VCCHI. An undervoltage lockout circuit disables the chip until the voltage at VCCLO is greater than 2.45V.", 24 AUXVCC (power) "The supply input for the GATELO and GATEHI discharge circuitry. Connect a 1uF capacitor to ground. AUXVCC is powered from VCCLO via an internal Schottky diode and series resistor."

## LTC1421ISW-2.5#PBF
designator U?
Hot Swap Controller, 2.6 to 13.2 V, -5 to -12 V Vin, 24-pin SOIC (SW-24), -40 to 85 degC, Pb-Free; Manufacturer: Linear Technology; PartNumber: LTC1421ISW-2.5#PBF; Active Limiting: no; Circuit Breaker Accuracy(%): 20; Circuit Breaker Threshold: 50 mV; Circuit Breakers(#): 2; Extended Temp: C, I; Fault: yes; In-Rush Current: Ramp; DatasheetVersion: Rev. C; PackageVersion: Jun-10; PackageReference: SW-24; PackageDescription: 24-Pin Plastic Small Outline, Body 15.395 x 7.493 mm, Pitch 1.27 mm; Supplier 1: Digi-Key; Supplier Part Number 1: LTC1421ISW-2.5#PBF-ND; Fast Comparator: no; Foldback: no; Power Good: yes; Reset: yes; RoHS: TRUE; Vin Range: 2.6 to 13.2 V, -5 to -12 V; Mounting Technology: Surface Mount; ComponentLink1Description: Manufacturer URL; ComponentLink1URL: http://www.linear.com/; ComponentLink2Description: Datasheet; ComponentLink2URL: http://cds.linear.com/docs/en/datasheet/1421fc.pdf; ComponentLink3Description: Package Specification; ComponentLink3URL: http://cds.linear.com/docs/Packaging/SO_24_05-08-1620.pdf
footprint LT-SW-24_N (SOIC, 24-Leads, Body 15.6x7.6mm, Pitch 1.27mm, IPC Medium Density)
footprint LT-SW-24_L (SOIC, 24-Leads, Body 15.6x7.6mm, Pitch 1.27mm, IPC High Density)
footprint LT-SW-24_M (SOIC, 24-Leads, Body 15.6x7.6mm, Pitch 1.27mm, IPC Low Density)
pins: 1 ~{CON1} (in) "TTL Level Input with a Pull-Up to VCCLO.Together with C\O\N\2\, it is used to indicate board connection. The pin must be tied to ground on the host side of the connector. When using staggered connector pins, C\O\N\1\ and (See Datasheet)", 2 ~{CON2} (in) "TTL Level Input with a Pull-Up to VCCLO. Together with C\O\N\1\ it is used to indicate board connection.", 3 ~{POR} (in) "TTL Level Input with a Pull-Up to VCCLO. When the pin is pulled low for at least 20ms, a hard reset is generated. Both VOUTLO and VOUTHI will turn off at a controlled rate. A power-up sequence will not start until the P\O\R\ (See Datasheet)", 4 ~{FAULT} (oc) "Open Drain Output to GND with a Weak Pull-Up to VCCLO. The pin is pulled low when an overcurrent fault is detected at VOUTLO or VOUTHI.", 5 DISABLE (out) "CMOS Output. The signal is used to disable the board’s data bus during insertion or removal.", 6 PWRGD (oc) "Open Drain Output to GND with a Weak Pull-Up to VCCLO. The pin is pulled low immediately after VOUTLO falls below its reset threshold voltage. The pin is pulled high immediately after VOUTLO rises above its reset threshold (See Datasheet)", 7 ~{RESET} (oc) "Open Drain Output to GND with a Weak Pull-Up to VCCLO. The pin is pulled low when a reset condition is detected. A reset will be generated when any of the following conditions are met: Either C\O\N\1\ or C\O\N\2\ is high, (See Datasheet)", 8 REF (out) "The Reference Voltage Output. VOUT = 1.232V +/-1%. The reference can source up to 5mA of current. A 1uF bypass capacitor is recommended.", 9 CPON (hiz) "CMOS Output That Can Be Pulled Below Ground. CPON is pulled high when the internal charge pumps for GATELO and GATEHI are turned on. CPON is pulled low when the charge pumps are turned off. The pin can be used to control an (See Datasheet)", 10 RAMP (in) "Analog Power-Up Ramp Control Pin. By connecting an external capacitor between the RAMP and GATEHI, a positive linear voltage ramp on GATEHI and GATELO is generated on power-up with a slope equal to 20uA/CRAMP. A 10k resistor (See Datasheet)", 11 FB (in) "Analog Feedback Input. FB is used to set the reset threshold voltage on VCCLO. For a 5V supply leave FB floating. For a 3.3V supply, short FB to VCCLO.", 12 GND (power) "Ground", 13 COMP+ (in) "Noninverting Comparator Input.", 14 COMP- (in) "Inverting Comparator Input.", 15 COMPOUT (oc) "Open Drain Comparator Output.", 16 VOUTHI (power) "High Supply Voltage Output. This must be the higher of the two supply voltage outputs.", 17 GATEHI (out) "The High Side Gate Drive for the High Supply N-Channel. An internal charge pump guarantees at least 6V of gate drive. The slope of the voltage rise at GATEHI is set by the external capacitor connected between GATEHI and RAMP.(See Datasheet)", 18 SETHI (in) "The Circuit Breaker Set Pin for the High Supply. With a sense resistor placed in the supply path between VCCHI and SETHI, the circuit breaker will trip when the voltage across the resistor exceeds 50mV for more than 20us. To (See Datasheet)", 19 VCCHI (power) "The Positive Supply Input. This must be the higher of the two input supply voltages. An undervoltage lockout circuit disables the chip until the voltage at VCCHI is greater than 2.45V.", 20 VOUTLO (power) "Low Supply Voltage Output. This must be the lower of the two supply voltage outputs.", 21 GATELO (out) "The High Side Gate Drive for the Low Supply N-Channel Pass Transistor. An internal charge pump guarantees at least 10V of gate drive. The slope of the voltage rise at GATELO is set by the external capacitor connected between (See Datasheet)", 22 SETLO (in) "The Circuit Breaker Set Pin for the Low Supply. With a sense resistor placed in the supply path between VCCLO and SETLO, the circuit breaker will trip when the voltage across the resistor exceeds 50mV for more than 20us. To (See Datasheet)", 23 VCCLO (power) "The Positive Supply Input. VCCLO must be equal to or lower voltage than VCCHI. An undervoltage lockout circuit disables the chip until the voltage at VCCLO is greater than 2.45V.", 24 AUXVCC (power) "The supply input for the GATELO and GATEHI discharge circuitry. Connect a 1uF capacitor to ground. AUXVCC is powered from VCCLO via an internal Schottky diode and series resistor."